# EAGLE library part SN74LVC3G04YZPR (library SN74LVC3G04YZPR)
Inverters TRIPLE INVERTER GATE Source: Datasheet <https://www.ti.com/lit/ds/symlink/sn74lvc3g04.pdf?HQS=dis-dk-null-digikeymode-dsf-pf-null-wwe&ts=1683639946467&ref_url=https%3A%2F%2Fwww.ti.com%2Fgeneral%2Fdocs%2Fsuppproductinfo.tsp%3FdistId%3D10%26gotoUrl%3Dhttps%3A%2F%2Fwww.ti>
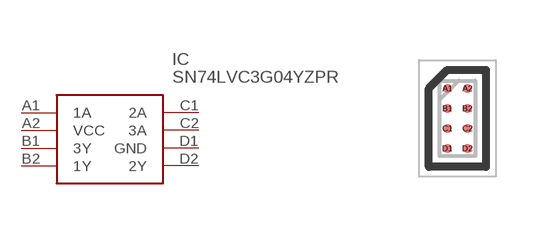
[diagram p0: symbol with the pads of BGA8C50P2X4_89X189X50; footprint BGA8C50P2X4_89X189X50]

Designator prefix IC

## SN74LVC3G04YZPR (Description: Inverters TRIPLE INVERTER GATE; Height: 0.5mm; Manufacturer_Name: Texas Instruments; Manufacturer_Part_Number: SN74LVC3G04YZPR; Mouser_Part_Number: 595-SN74LVC3G04YZPR; Mouser_Price-Stock: https://www.mouser.co.uk/ProductDetail/Texas-Instruments/SN74LVC3G04YZPR?qs=dT9u2OTAaVWej14EwaP%252BOQ%3D%3D)  [BGA8C50P2X4_89X189X50]
A1  1A
A2  VCC
B1  3Y
B2  1Y
C1  2A
C2  3A
D1  GND
D2  2Y

## Footprint BGA8C50P2X4_89X189X50 (pad centres in mm)
YZP0008
smd 0.226 x 0.226: A1 -0.25,0.75; A2 0.25,0.75; B1 -0.25,0.25; B2 0.25,0.25; C1 -0.25,-0.25; C2 0.25,-0.25; D1 -0.25,-0.75; D2 0.25,-0.75